# EAGLE library part 87340-10_S (library untitled)
RECEPTACAL
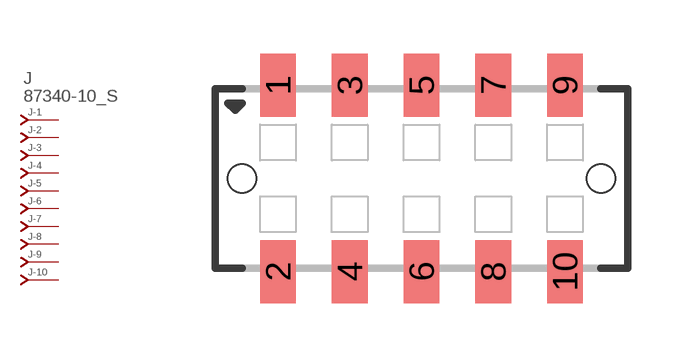
[diagram p329: symbol with the pads of 87340-10; footprint 87340-10]

Designator prefix J; gates -1=J-NV -2=J-N -3=J-N -4=J-N -5=J-N -6=J-N -7=J-N -8=J-N -9=J-N -10=J-N

## 87340-10_S  [87340-10]
1  -1:J  pas
2  -2:J  pas
3  -3:J  pas
4  -4:J  pas
5  -5:J  pas
6  -6:J  pas
7  -7:J  pas
8  -8:J  pas
9  -9:J  pas
10  -10:J  pas

## Footprint 87340-10 (pad centres in mm)
RECEPTACAL SMD Dual Row, Vertical, Low Profile
smd 1 x 1.75: 1 -4,2.6; 2 -4,-2.6; 3 -2,2.6; 4 -2,-2.6; 5 0,2.6; 6 0,-2.6; 7 2,2.6; 8 2,-2.6; 9 4,2.6; 10 4,-2.6
hole 0.8 at -5,0
hole 0.8 at 5,0